# EAGLE library part 10PIN_RELIMATE_CONNECTOR (library AB_RELIMATE_CONNECTORS)
RELIMATE CONNECTOR Created by Aadesh Borate PITCH = 2.54 mm
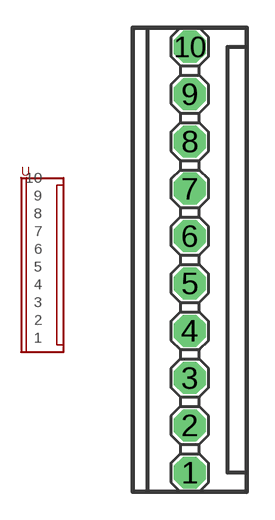
[diagram p1: symbol with the pads of 10PIN_RELIMATE_CONNECTOR; footprint 10PIN_RELIMATE_CONNECTOR]

Designator prefix -

## 10PIN_RELIMATE_CONNECTOR  [10PIN_RELIMATE_CONNECTOR]
1  1
2  2
3  3
4  4
5  5
6  6
7  7
8  8
9  9
10  10

## Footprint 10PIN_RELIMATE_CONNECTOR (pad centres in mm)
RELIMATE CONNECTOR Created by Aadesh Borate PITCH = 2.54 mm
drill 1.143 octagon: 1 0,-12.7; 2 0,-10.16; 3 0,-7.62; 4 0,-5.08; 5 0,-2.54; 6 0,0; 7 0,2.54; 8 0,5.08; 9 0,7.62; 10 0,10.16